# Altium schematic symbol library BLM15AX300SZ1D.SchLib: 1 symbol
Pins are listed as number, name and electrical type; pins without a type are passive.

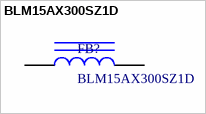
[diagram p0: symbol BLM15AX300SZ1D]

## BLM15AX300SZ1D
designator FB?
Ferrite Beads 0402 30ohms 1100mA Auto Infotainment; Supplier 1: Mouser; Supplier Part Number 1: 81-BLM15AX300SZ1D
footprint PCBComponent_1
pins: 1, 2